# EAGLE library part TPA2012D2 (library GTA04b7)
2.1 W/CH STEREO FILTER-FREE CLASS-D AUDIO POWER AMPLIFIER
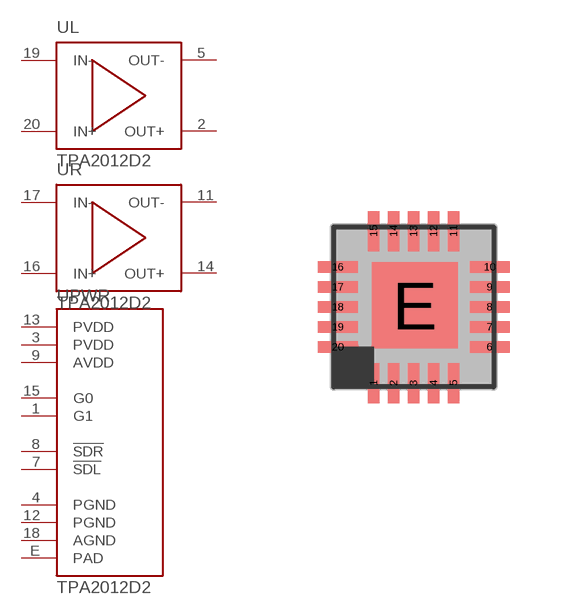
[diagram p45: symbol with the pads of S-PWQFN-N20-0.5; footprint S-PWQFN-N20-0.5]

Designator prefix -; gates L=AUDIO-AMP PWR=AUDIO-TPA2012 R=AUDIO-AMP

## TPA2012D2RTJ  [S-PWQFN-N20-0.5]
1  PWR:G1  in
2  L:OUT+  out
3  PWR:PVDD  pwr
4  PWR:PGND  pwr
5  L:OUT-  out
7  PWR:!SDL  in
8  PWR:!SDR  in
9  PWR:AVDD  pwr
11  R:OUT-  out
12  PWR:PGND  pwr
13  PWR:PVDD  pwr
14  R:OUT+  out
15  PWR:G0  in
16  R:IN+  in
17  R:IN-  in
18  PWR:AGND  pwr
19  L:IN-  in
20  L:IN+  in
E  PWR:PAD  pwr

## Footprint S-PWQFN-N20-0.5 (pad centres in mm)
TI RTJ (S-PWQFN-N20)
smd 0.28 x 1: 1 -1,-1.9; 2 -0.5,-1.9; 3 0,-1.9; 4 0.5,-1.9; 5 1,-1.9; 11 1,1.9; 12 0.5,1.9; 13 0,1.9; 14 -0.5,1.9; 15 -1,1.9
smd 1 x 0.28: 6 1.9,-1; 7 1.9,-0.5; 8 1.9,0; 9 1.9,0.5; 10 1.9,1; 16 -1.9,1; 17 -1.9,0.5; 18 -1.9,0; 19 -1.9,-0.5; 20 -1.9,-1
smd 2.15 x 2.15: E 0.03,0.04